# Altium schematic symbol library Christmas-2024_TSO-PCB.SchLib: 24 symbols
Pins are listed as number, name and electrical type; pins without a type are passive.

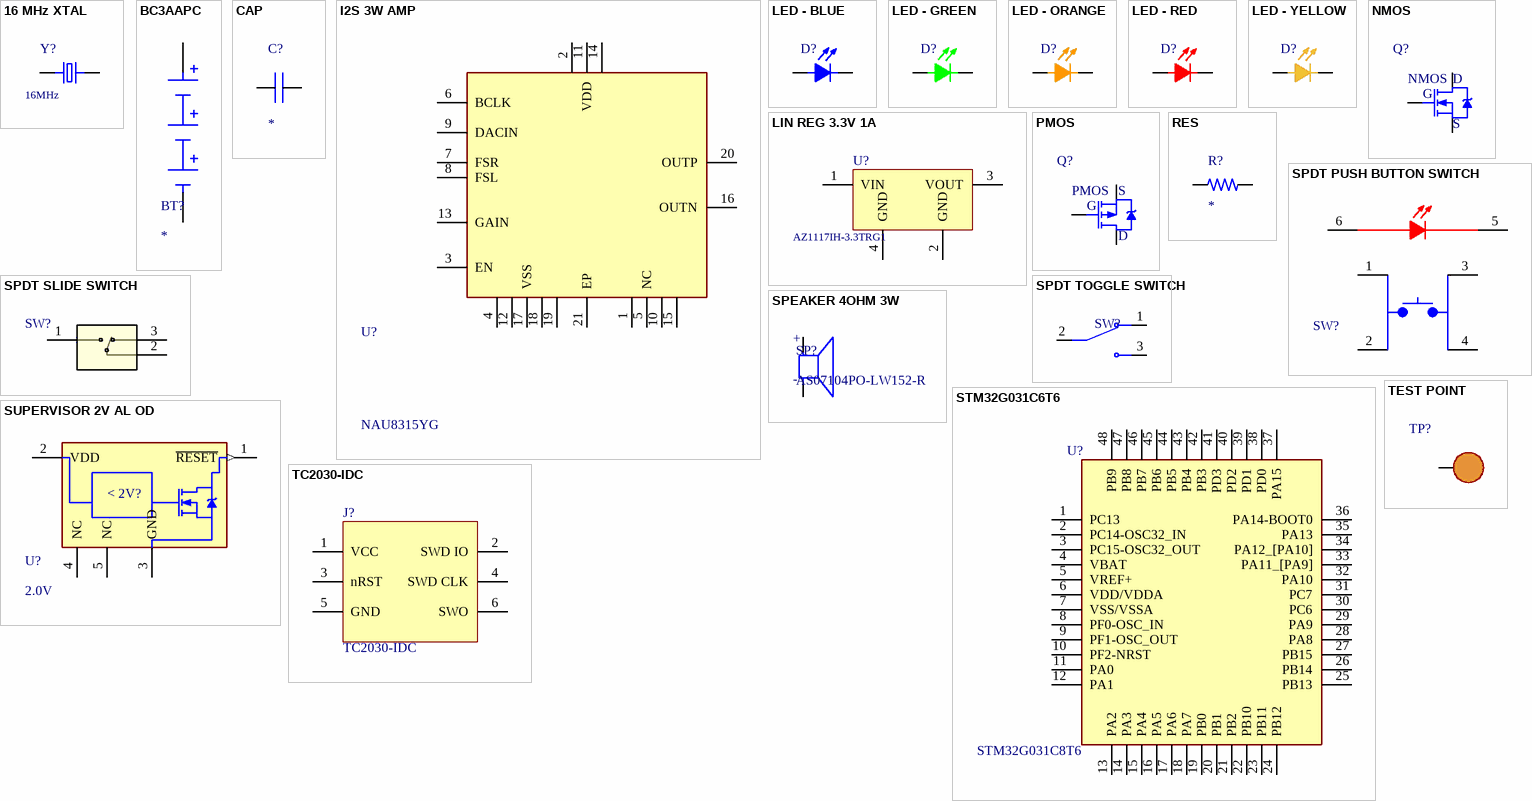
[diagram p0: symbols 16 MHz XTAL to TEST POINT]

## 16 MHz XTAL
designator Y?, comment 16MHz
CRYSTAL 16.0000MHZ 9PF SMD; MFR: EPSON; MFR PN: TSX-3225 16.0000MF09Z-AC0; Type: SMD; Frequency: 16MHz
footprint 4-SMD_NL
pins: 1, 2

## BC3AAPC
designator BT?
Holder Batt 3-AA Cells Pc Mnt; MFR: MPD (Memory Protection Devices); MFR PN: BC3AAPC; Type: TH
footprint BAT_BC3AAPC
pins: NEG, POS

## CAP
designator C?  (value not drawn)
Capacitor; Type: SMD; MFR: *; MFR PN: *; Value: *
footprint 0402C (0402 SMT Capacitor)
footprint 0603C
pins: 1, 2

## I2S 3W AMP
designator U?, comment NAU8315YG
I2S MONO 3.2W CLASS-D AMPLIFIER; MFR: Nuvoton; MFR PN: NAU8315YG; Value: *; Type: SMD; Power Rating: 3.2W
footprint 20-WFQFN-EP
pins: 1 NC, 2 VDD, 3 EN, 4 VSS, 5 NC, 6 BCLK, 7 FSR, 8 FSL, 9 DACIN, 10 NC, 11 VDD, 12 VSS, 13 GAIN, 14 VDD, 15 NC, 16 OUTN, 17 VSS, 18 VSS, 19 VSS, 20 OUTP, 21 EP

## LED - BLUE
designator D?  (value not drawn)
LED, Blue, 0603; MFR: Würth Elektronik; MFR PN: 150060BS75000; Type: SMD; Vf: 3.2V; Color: Blue
footprint LED - 0603 - BLUE
pins: 1 A, 2 C

## LED - GREEN
designator D?  (value not drawn)
LED, Green, 0603; MFR: Dialight; MFR PN: 5988070107F; Type: SMD; Vf: 2V; Color: Green
footprint LED - 0603 - GREEN
pins: 1 A, 2 C

## LED - ORANGE
designator D?  (value not drawn)
LED, Orange, 0603; MFR: Lite-On Inc.; MFR PN: LTST-C190KFKT; Type: SMD; Vf: 2V; Color: Orange
footprint LED - 0603 - ORANGE
pins: 1 A, 2 C

## LED - RED
designator D?  (value not drawn)
LED, Red, 0603; MFR: Würth Elektronik; MFR PN: 150060RS75000; Type: SMD; Vf: 2V; Color: Red
footprint LED - 0603 - RED
pins: 1 A, 2 C

## LED - YELLOW
designator D?  (value not drawn)
LED, Yellow, 0603; MFR: Würth Elektronik; MFR PN: 150060YS75000; Type: SMD; Vf: 2V; Color: Yellow
footprint LED - 0603
pins: 1 A, 2 C

## LIN REG 3.3V 1A
designator U?, comment AZ1117IH-3.3TRG1
IC REG LINEAR 3.3V 1A SOT223; MFR: Texas Instruments; MFR PN: LM3940IMPX-3.3/NOPB; Type: SMD
footprint SOT-223-3
pins: 1 VIN, 2 GND, 3 VOUT, 4 GND

## NMOS
designator Q?
N-Channel MOSFET; MFR PN: DMN63D8L-7; MFR: Diodes Incorporated; Type: SMD
footprint SOT-23
pins: 1 G, 2 S, 3 D

## PMOS
designator Q?
P-Channel MOSFET, 4.2A, 20V, , 52mOhm max, 1.4W; MFR: Diodes Incorporated; Value: DMG2305UX-7; Type: SMD
footprint SOT-23
pins: 1 G, 2 S, 3 D

## RES
designator R?
Resistor; MFR PN: *; MFR: *; Type: SMD; Value: *
footprint 0402R (0402 SMT Resistor)
footprint 0805R
pins: 1, 2

## SPDT PUSH BUTTON SWITCH
designator SW?  (value not drawn)
SWITCH TACTILE SPST-NO 0.05A 12V, Red Illumination; MFR: E-Switch; MFR PN: TL1265RQSCLR; Vendor: *; Vendor PN: *; Vendor Link: *; Type: SMD
footprint TL1265RQSCLR
pins: 1, 2, 3, 4, 5, 6

## SPDT SLIDE SWITCH
designator SW?
MFR: Nidec Components Corporation; MFR PN: CJS-1200TB; Type: SMD
footprint CJS-1200TB
pins: 1, 2, 3

## SPDT TOGGLE SWITCH
designator SW?  (value not drawn)
Toggle Switch, 100 Series, SPDT, ON-NONE-ON, Sealed, 5A, 120VAC, 28VDC, R/A PC; MFR: E-Switch; MFR PN: 100SP1T2B4M6QE; Type: TH
footprint SW_100SP1T2B4M6QE
pins: 1, 2, 3

## SPEAKER 4OHM 3W
designator SP?, comment AS07104PO-LW152-R
SPEAKER 4OHM 3W TOP PORT 86DB; MFR: PUI Audio, Inc.; MFR PN: AS04004PO-2-LW152-R; Type: TH; Power Rating: 3W
pins: N, P
text: +; -

## STM32G031C6T6
designator U?, comment STM32G031C8T6
STM32G031C6T6 - ARM MCU, STM32 Family STM32G0 Series Microcontrollers, ARM Cortex-M0+, 32bit, 64 MHz, 64 KB, 8 KB; MFR: STMicroelectronics; MFR PN: STM32G031C8T6; Vendor: *; Vendor PN: *; Vendor Link: *; Type: SMD
footprint 48-LQFP
pins: 1 PC13, 2 PC14-OSC32_IN, 3 PC15-OSC32_OUT, 4 VBAT, 5 VREF+, 6 VDD/VDDA, 7 VSS/VSSA, 8 PF0-OSC_IN, 9 PF1-OSC_OUT, 10 PF2-NRST, 11 PA0, 12 PA1, 13 PA2, 14 PA3, 15 PA4, 16 PA5, 17 PA6, 18 PA7, 19 PB0, 20 PB1, 21 PB2, 22 PB10, 23 PB11, 24 PB12, 25 PB13, 26 PB14, 27 PB15, 28 PA8, 29 PA9, 30 PC6, 31 PC7, 32 PA10, 33 PA11_[PA9], 34 PA12_[PA10], 35 PA13, 36 PA14-BOOT0, 37 PA15, 38 PD0, 39 PD1, 40 PD2, 41 PD3, 42 PB3, 43 PB4, 44 PB5, 45 PB6, 46 PB7, 47 PB8, 48 PB9

## SUPERVISOR 2V AL OD
designator U?, comment 2.0V
Low-voltage supervisor with adjustable-reset time delay and manual reset; MFR PN: TLV840NADL20DBVR; MFR: Texas Instruments; Type: SMD
footprint SOT-23-5
pins: 1 ~{RESET} (out), 2 VDD (power), 3 GND (power), 4 NC, 5 NC
text: < 2V?

## TC2030-IDC
designator J?
"Plug of Nails" POGO Pin connector; MFR PN: TC2030-IDC-NL; MFR: Tag-Connect; Value: DNS
footprint TAG CONNECT TC2030IDC - NO 3D MODEL
pins: 1 VCC, 2 SWD IO, 3 nRST, 4 SWD CLK, 5 GND, 6 SWO

## TEST POINT
designator TP?, comment RCWCTE  (value not drawn)
Test Point, Surface Mount; MFR: KOA Speer Electronics, Inc.; MFR PN: RCWCTE; Type: SMD
footprint RCWCTE
footprint TP - SMALL
pins: 1 0

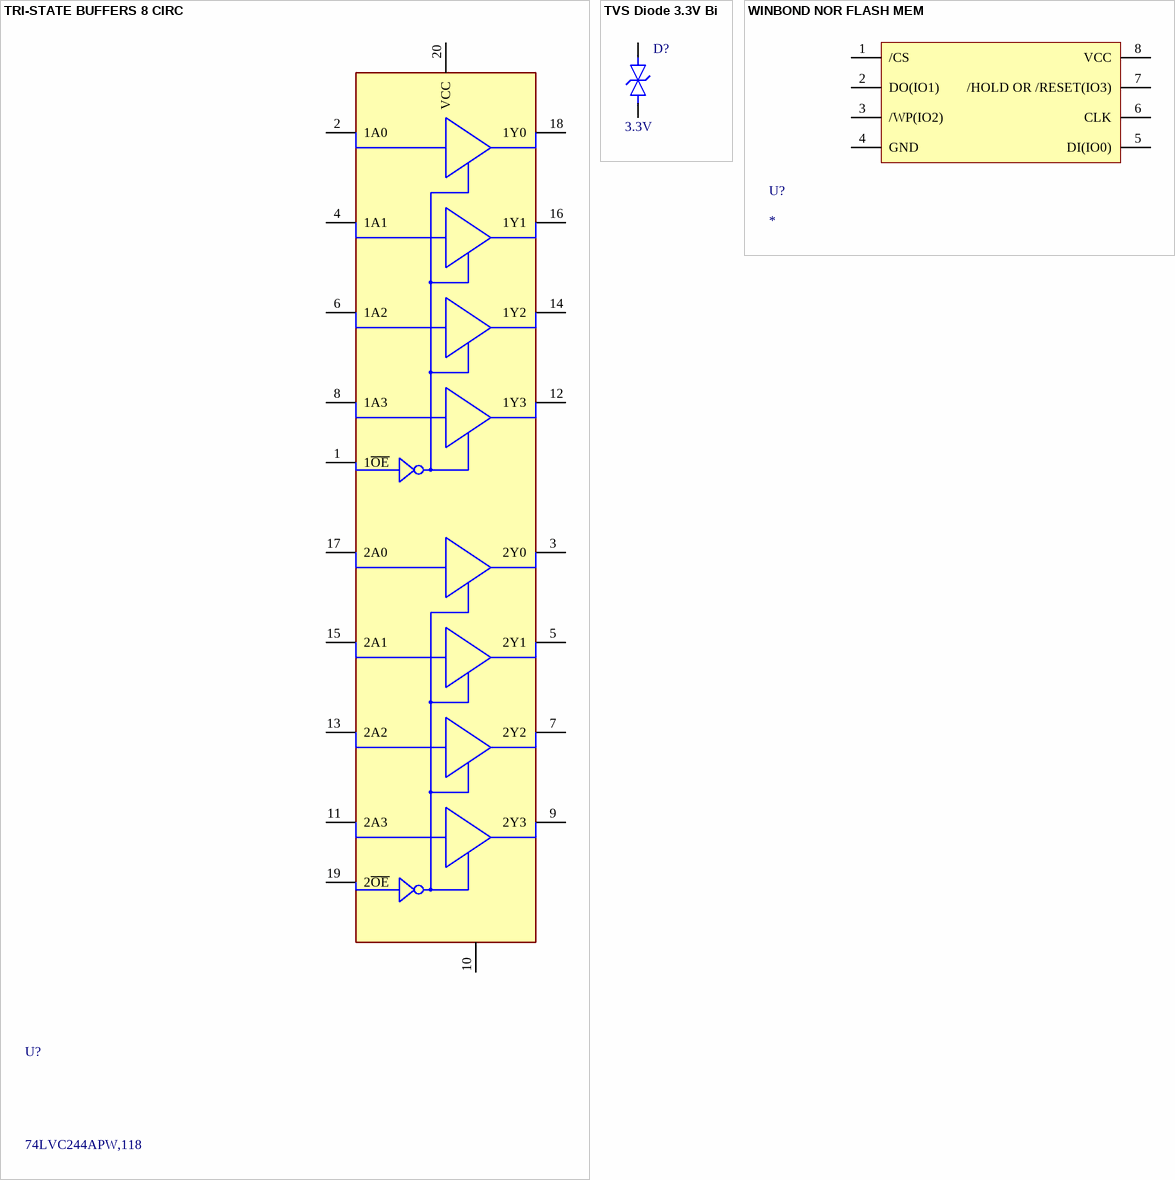
[diagram p1: symbols TRI-STATE BUFFERS 8 CIRC to WINBOND NOR FLASH MEM]

## TRI-STATE BUFFERS 8 CIRC
designator U?, comment 74LVC244APW,118
NXP 74LVC244APW,115 Octal Buffer & Line Driver, 3-State, 1.2  3.6 V, 20-Pin TSSOP; MFR: Nexperia; MFR PN: 74LVC244APW,118; Type: SMD
footprint 20-TSSOP
pins: 1 1~{OE}, 2 1A0, 3 2Y0, 4 1A1, 5 2Y1, 6 1A2, 7 2Y2, 8 1A3, 9 2Y3, 10 GND, 11 2A3, 12 1Y3, 13 2A2, 14 1Y2, 15 2A1, 16 1Y1, 17 2A0, 18 1Y0, 19 2~{OE}, 20 VCC

## TVS Diode 3.3V Bi
designator D?, comment VRS: 3.3V  (hidden comment: DESD3V3E1BL-7B)
TVS DIODE 3.3VWM 7VC DFN1006-2; MFR: Diodes Incorporated; Type: SMD; VBR: 3.8V; VC: 7V; MFR PN: DESD3V3E1BL-7B
footprint 0402-TVS
pins: 1, 2

## WINBOND NOR FLASH MEM
designator U?
FLASH - NOR Memory IC SPI, 128 Mbit; MFR: Winbond; MFR PN: W25Q128JVSIM; Type: SMD; Value: *
footprint 8-SOIC
pins: 1 /CS, 2 DO(IO1), 3 /WP(IO2), 4 GND (power), 5 DI(IO0), 6 CLK, 7 /HOLD OR /RESET(IO3), 8 VCC (power)